# EAGLE library part ADP7104 (library lib-works)
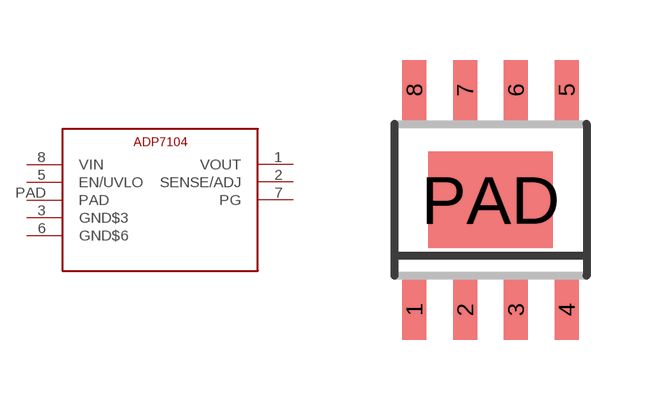
[diagram p2: symbol with the pads of SOIC8-EXP-PAD; footprint SOIC8-EXP-PAD]

Designator prefix -

## ADP7104  [SOIC8-EXP-PAD]
1  VOUT
2  SENSE/ADJ
3  GND$3
5  EN/UVLO
6  GND$6
7  PG
8  VIN
PAD  PAD

## Footprint SOIC8-EXP-PAD (pad centres in mm)
SOIC-8 CASE 751-07 Source: http://www.onsemi.com/pub/Collateral/MC34164-D.PDF D (R-PDSO-G8)PLATIC SMALL-OUTLINE PACKAGE Source: http://focus.ti.com/lit/ds/symlink/tlc27l2.pdf
smd 0.6 x 1.5: 1 -1.905,-2.75; 2 -0.635,-2.75; 3 0.635,-2.75; 4 1.905,-2.75; 5 1.905,2.75; 6 0.635,2.75; 7 -0.635,2.75; 8 -1.905,2.75
smd 3.1 x 2.41: PAD 0,0